# Altium schematic symbol library polycmut.SchLib: 2 symbols
Pins are listed as number, name and electrical type; pins without a type are passive.

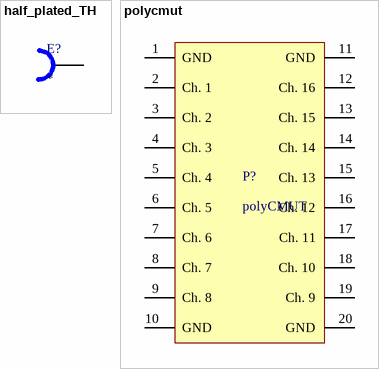
[diagram p0: symbols half_plated_TH to polycmut]

## half_plated_TH
designator E?
footprint hpth_06_05
footprint hpth_04_03
pins: 1

## polycmut
designator P?, comment polyCMUT
footprint polycmut
pins: 1 GND, 2 Ch. 1, 3 Ch. 2, 4 Ch. 3, 5 Ch. 4, 6 Ch. 5, 7 Ch. 6, 8 Ch. 7, 9 Ch. 8, 10 GND, 11 GND, 12 Ch. 16, 13 Ch. 15, 14 Ch. 14, 15 Ch. 13, 16 Ch. 12, 17 Ch. 11, 18 Ch. 10, 19 Ch. 9, 20 GND